# Altium schematic symbol library Cypress USB Controllers.SchLib: 169 symbols (part 4 of 15)
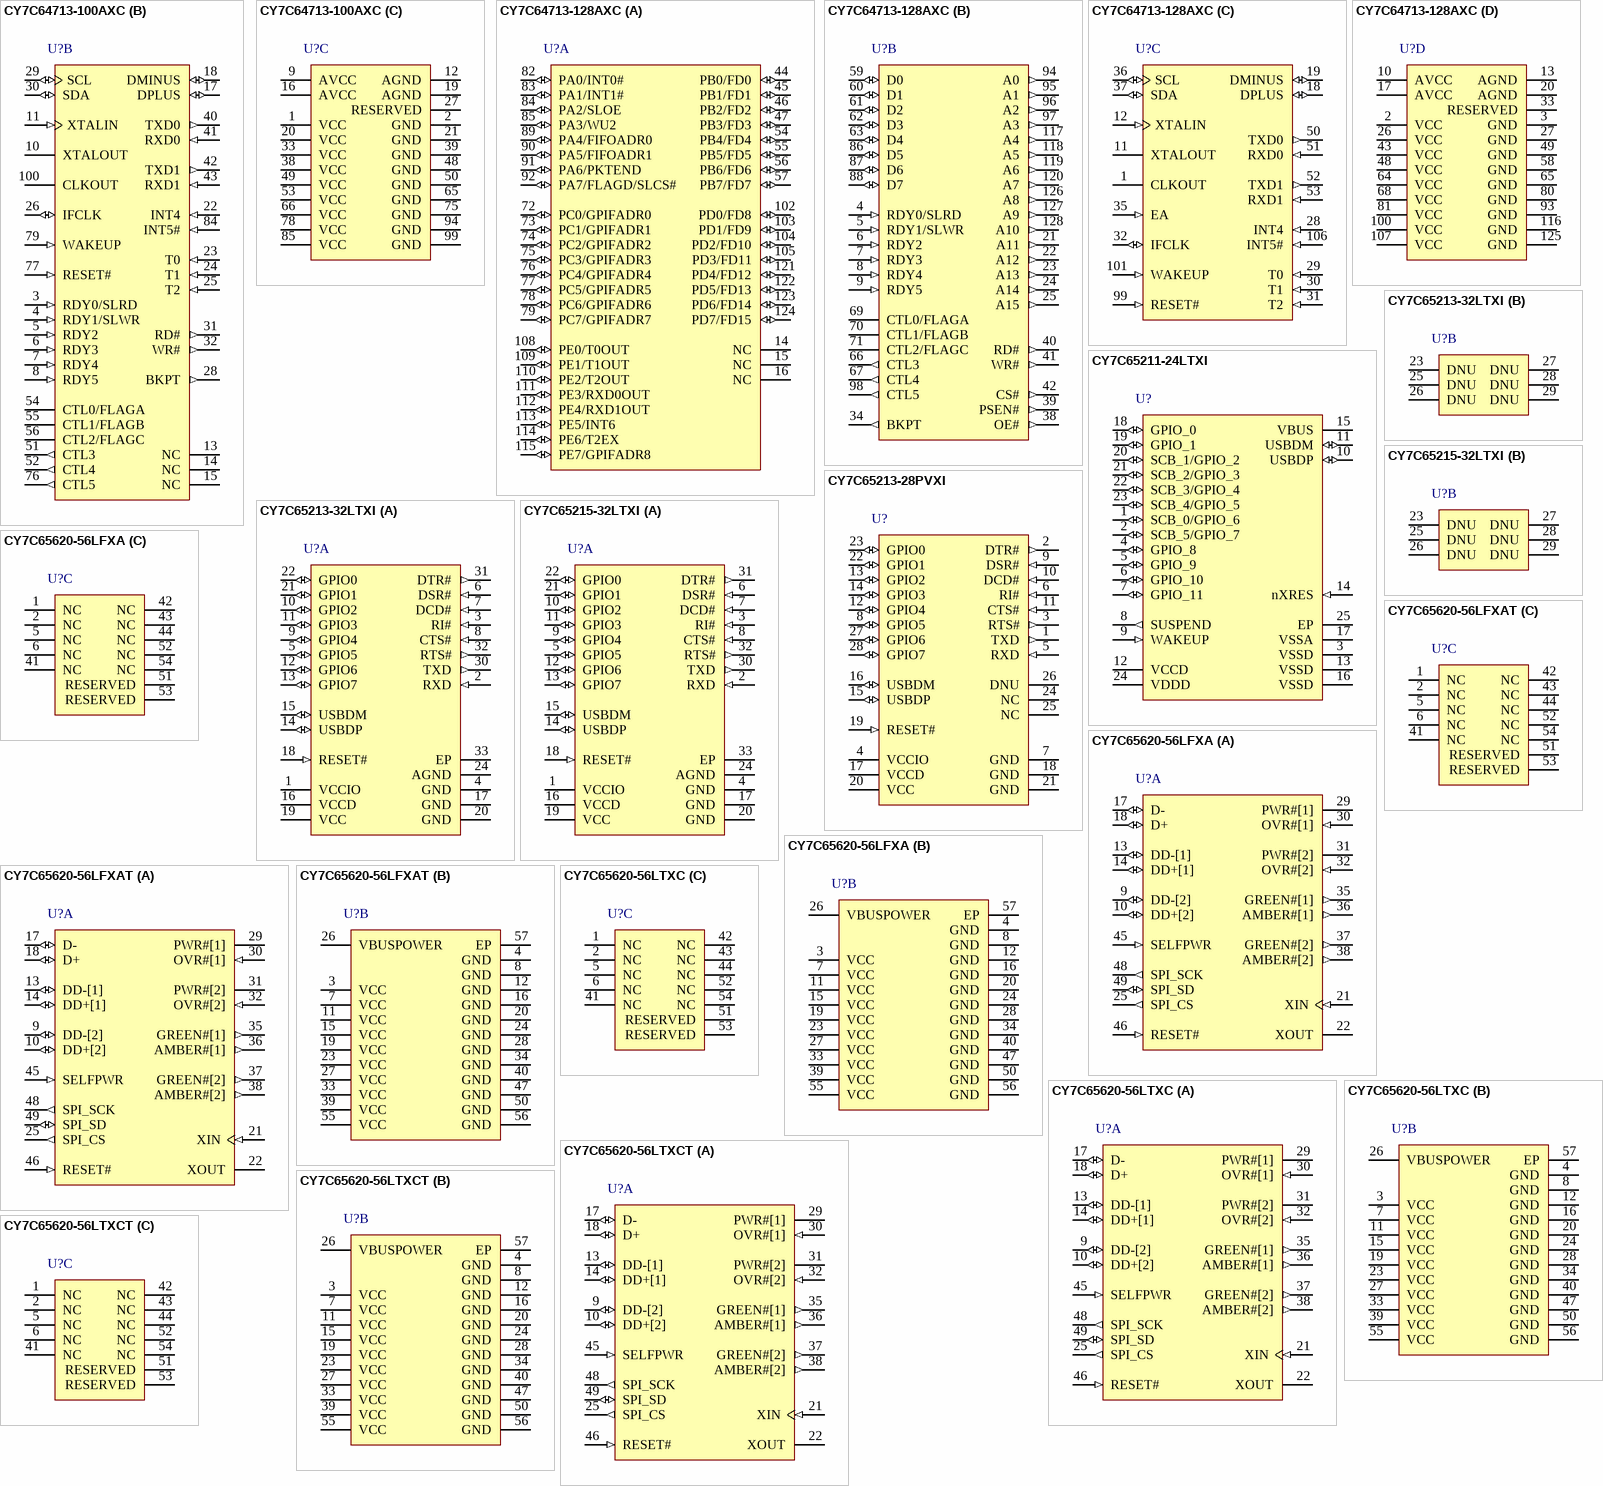
[diagram p25: symbols CY7C64713-100AXC to CY7C65620-56LTXCT]

## CY7C64713-128AXC
designator U?
EZ-USB FX1(TM) USB Microcontroller Full Speed USB Peripheral Controller, 16 KB, 40 I/Os, 3.15 to 3.45 V, 0 to 70 degC, 128-Pin TQFP (AX128), Tray; Manufacturer: Cypress; PartNumber: CY7C64713-128AXC; Max. Operating Voltage (V): 3.45; Memory Architecture: RAM; Memory Size (KB): 16; Min. Operating Voltage (V): 3.15; No. of I/Os: 40; Populated: Yes; DatasheetVersion: Rev. *L; PackageVersion: Rev. *F; PackageReference: AX128; PackageDescription: 128-Pin TQFP, Body 14 x 20 mm, Pitch 0.5 mm; Supplier 1: Digi-Key; Supplier Part Number 1: 428-1678-ND; CPU Core: Enhanced 8051; Max. Operating Temp. (degreesC): 70; Min. Operating Temp. (degreesC): 0; Packing: Tray; RoHS: Pb-Free; Mounting Technology: Surface Mount; Code_JEDEC: MS-026; ComponentLink1Description: Manufacturer URL; ComponentLink1URL: http://www.cypress.com/; ComponentLink2Description: Datasheet; ComponentLink2URL: http://www.cypress.com/?docID=48215; ComponentLink3Description: Package Specification; ComponentLink3URL: http://www.cypress.com/?docID=48215
footprint CYP-AX128_N (TQFP, 128-Leads, Body 20.1x14.1mm, Pitch 0.5mm, IPC Medium Density)
footprint CYP-AX128_L (TQFP, 128-Leads, Body 20.1x14.1mm, Pitch 0.5mm, IPC High Density)
footprint CYP-AX128_M (TQFP, 128-Leads, Body 20.1x14.1mm, Pitch 0.5mm, IPC Low Density)
part A pins: 14 NC "No Connect. This pin must be left open.", 15 NC "No Connect. This pin must be left open.", 16 NC "No Connect. This pin must be left open.", 44 PB0/FD0 (io), 45 PB1/FD1 (io), 46 PB2/FD2 (io), 47 PB3/FD3 (io), 54 PB4/FD4 (io), 55 PB5/FD5 (io), 56 PB6/FD6 (io), 57 PB7/FD7 (io), 72 PC0/GPIFADR0 (io), 73 PC1/GPIFADR1 (io), 74 PC2/GPIFADR2 (io), 75 PC3/GPIFADR3 (io), 76 PC4/GPIFADR4 (io), 77 PC5/GPIFADR5 (io), 78 PC6/GPIFADR6 (io), 79 PC7/GPIFADR7 (io), 82 PA0/INT0# (io), 83 PA1/INT1# (io), 84 PA2/SLOE (io), 85 PA3/WU2 (io), 89 PA4/FIFOADR0 (io), 90 PA5/FIFOADR1 (io), 91 PA6/PKTEND (io), 92 PA7/FLAGD/SLCS# (io), 102 PD0/FD8 (io), 103 PD1/FD9 (io), 104 PD2/FD10 (io), 105 PD3/FD11 (io), 108 PE0/T0OUT (io), 109 PE1/T1OUT (io), 110 PE2/T2OUT (io), 111 PE3/RXD0OUT (io), 112 PE4/RXD1OUT (io), 113 PE5/INT6 (io), 114 PE6/T2EX (io), 115 PE7/GPIFADR8 (io), 121 PD4/FD12 (io), 122 PD5/FD13 (io), 123 PD6/FD14 (io), 124 PD7/FD15 (io)
part B pins: 4 RDY0/SLRD (in), 5 RDY1/SLWR (in), 6 RDY2 (in) "RDY2 is a GPIF input signal.", 7 RDY3 (in) "RDY3 is a GPIF input signal.", 8 RDY4 (in) "RDY4 is a GPIF input signal.", 9 RDY5 (in) "RDY5 is a GPIF input signal.", 21 A11 (out) "8051 Address Bus. This bus is driven at all times. When the 8051 is addressing the internal RAM it reflects the internal address.", 22 A12 (out) "8051 Address Bus. This bus is driven at all times. When the 8051 is addressing the internal RAM it reflects the internal address.", 23 A13 (out) "8051 Address Bus. This bus is driven at all times. When the 8051 is addressing the internal RAM it reflects the internal address.", 24 A14 (out) "8051 Address Bus. This bus is driven at all times. When the 8051 is addressing the internal RAM it reflects the internal address.", 25 A15 (out) "8051 Address Bus. This bus is driven at all times. When the 8051 is addressing the internal RAM it reflects the internal address.", 34 BKPT (out) "Breakpoint. This pin goes active (HIGH) when the 8051 address bus matches the BPADDRH/L registers and breakpoints are enabled in the BREAKPT register (BPEN = 1). If the BPPULSE bit in the BREAKPT register is HIGH, this (See Datasheet)", 38 OE# (out) "OE# is the active LOW output enable for external memory.", 39 PSEN# (out) "Program Store Enable. This active LOW signal indicates an 8051 code fetch from external memory. It is active for program memory fetches from 0x4000-0xFFFF when the EA pin is LOW, or from 0x0000-0xFFFF when the EA pin is HIGH.", 40 RD# (out) "RD# is the active-LOW read strobe output for external memory.", 41 WR# (out) "WR# is the active-LOW write strobe output for external memory.", 42 CS# (out) "CS# is the active-LOW chip select for external memory.", 59 D0 (io) "8051 Data Bus. This bidirectional bus is high impedance when inactive, input for bus reads, and output for bus writes. The data bus is used for external 8051 program and data memory. The data bus is active only for external (See Datasheet)", 60 D1 (io) "8051 Data Bus. This bidirectional bus is high impedance when inactive, input for bus reads, and output for bus writes. The data bus is used for external 8051 program and data memory. The data bus is active only for external (See Datasheet)", 61 D2 (io) "8051 Data Bus. This bidirectional bus is high impedance when inactive, input for bus reads, and output for bus writes. The data bus is used for external 8051 program and data memory. The data bus is active only for external (See Datasheet)", 62 D3 (io) "8051 Data Bus. This bidirectional bus is high impedance when inactive, input for bus reads, and output for bus writes. The data bus is used for external 8051 program and data memory. The data bus is active only for external (See Datasheet)", 63 D4 (io) "8051 Data Bus. This bidirectional bus is high impedance when inactive, input for bus reads, and output for bus writes. The data bus is used for external 8051 program and data memory. The data bus is active only for external (See Datasheet)", 66 CTL3 (out) "CTL3 is a GPIF control output.", 67 CTL4 (out) "CTL4 is a GPIF control output.", 69 CTL0/FLAGA (hiz), 70 CTL1/FLAGB (hiz), 71 CTL2/FLAGC (hiz), 86 D5 (io) "8051 Data Bus. This bidirectional bus is high impedance when inactive, input for bus reads, and output for bus writes. The data bus is used for external 8051 program and data memory. The data bus is active only for external (See Datasheet)", 87 D6 (io) "8051 Data Bus. This bidirectional bus is high impedance when inactive, input for bus reads, and output for bus writes. The data bus is used for external 8051 program and data memory. The data bus is active only for external (See Datasheet)", 88 D7 (io) "8051 Data Bus. This bidirectional bus is high impedance when inactive, input for bus reads, and output for bus writes. The data bus is used for external 8051 program and data memory. The data bus is active only for external (See Datasheet)", 94 A0 (out) "8051 Address Bus. This bus is driven at all times. When the 8051 is addressing the internal RAM it reflects the internal address.", 95 A1 (out) "8051 Address Bus. This bus is driven at all times. When the 8051 is addressing the internal RAM it reflects the internal address.", 96 A2 (out) "8051 Address Bus. This bus is driven at all times. When the 8051 is addressing the internal RAM it reflects the internal address.", 97 A3 (out) "8051 Address Bus. This bus is driven at all times. When the 8051 is addressing the internal RAM it reflects the internal address.", 98 CTL5 (out) "CTL5 is a GPIF control output.", 117 A4 (out) "8051 Address Bus. This bus is driven at all times. When the 8051 is addressing the internal RAM it reflects the internal address.", 118 A5 (out) "8051 Address Bus. This bus is driven at all times. When the 8051 is addressing the internal RAM it reflects the internal address.", 119 A6 (out) "8051 Address Bus. This bus is driven at all times. When the 8051 is addressing the internal RAM it reflects the internal address.", 120 A7 (out) "8051 Address Bus. This bus is driven at all times. When the 8051 is addressing the internal RAM it reflects the internal address.", 126 A8 (out) "8051 Address Bus. This bus is driven at all times. When the 8051 is addressing the internal RAM it reflects the internal address.", 127 A9 (out) "8051 Address Bus. This bus is driven at all times. When the 8051 is addressing the internal RAM it reflects the internal address.", 128 A10 (out) "8051 Address Bus. This bus is driven at all times. When the 8051 is addressing the internal RAM it reflects the internal address."
part C pins: 1 CLKOUT (hiz) "CLKOUT. 12, 24 or 48 MHz clock, phase locked to the 24 MHz input clock. The 8051 defaults to 12 MHz operation. The 8051 may three-state this output by setting CPUCS.1 = 1.", 11 XTALOUT "Crystal Output. Connect this signal to a 24 MHz parallel-resonant, fundamental mode crystal and load capacitor to GND. If an external clock is used to drive XTALIN, leave this pin open.", 12 XTALIN (in) "Crystal Input. Connect this signal to a 24 MHz parallel-resonant, fundamental mode crystal and load capacitor to GND. It is also correct to drive the XTALIN with an external 24 MHz square wave derived from another clock (See Datasheet)", 18 DPLUS (io) "USB D+ Signal. Connect to the USB D+ signal.", 19 DMINUS (io) "USB D- Signal. Connect to the USB D- signal.", 28 INT4 (in) "INT4 is the 8051 INT4 interrupt request input signal. The INT4 pin is edge-sensitive, active HIGH.", 29 T0 (in) "T0 is the active-HIGH T0 signal for 8051 Timer0, which provides the input to Timer0 when C/T0 is 1. When C/T0 is 0, Timer0 does not use this bit.", 30 T1 (in) "T1 is the active-HIGH T1 signal for 8051 Timer1, which provides the input to Timer1 when C/T1 is 1. When C/T1 is 0, Timer1 does not use this bit.", 31 T2 (in) "T2 is the active-HIGH T2 input signal to 8051 Timer2, which provides the input to Timer2 when C/T2 = 1. When C/T2 = 0, Timer2 does not use this pin.", 32 IFCLK (io) "Interface Clock, used for synchronously clocking data into or out of the slave FIFOs. IFCLK also serves as a timing reference for all slave FIFO control signals and GPIF. When internal clocking is used (IFCONFIG.7 = 1) the (See Datasheet)", 35 EA (in) "External Access. This pin determines where the 8051 fetches code between addresses 0x0000 and 0x3FFF. If EA = 0 the 8051 fetches this code from its internal RAM. IF EA = 1 the 8051 fetches this code from external memory.", 36 SCL (io) "Clock for the I2C interface. Connect to VCC with a 2.2K resistor, even if no I2C peripheral is attached.", 37 SDA (io) "Data for I2C interface. Connect to VCC with a 2.2K resistor, even if no I2C peripheral is attached", 50 TXD0 (out), 51 RXD0 (in), 52 TXD1 (out) "TXD1 is an active-HIGH output pin from 8051 UART1, which provides the output clock in sync mode, and the output data in async mode.", 53 RXD1 (in) "RXD1 is an active-HIGH input signal for 8051 UART1, which provides data to the UART in all modes.", 99 RESET# (in) "Active LOW Reset. Resets the entire chip. See the section Reset and Wakeup on page 8 for more details.", 101 WAKEUP (in) "USB Wakeup. If the 8051 is in suspend, asserting this pin starts up the oscillator and interrupts the 8051 to allow it to exit the suspend mode. Holding WAKEUP asserted inhibits the EZ-USB FX1 chip from suspending. This pin (See Datasheet)", 106 INT5# (in) "INT5# is the 8051 INT5 interrupt request input signal. The INT5 pin is edge-sensitive, active LOW."
part D pins: 2 VCC (power) "VCC. Connect to 3.3 V power source.", 3 GND (power) "Ground.", 10 AVCC (power) "Analog VCC. Connect this pin to 3.3 V power source. This signal provides power to the analog section of the chip.", 13 AGND (power) "Analog Ground. Connect to ground with as short a path as possible.", 17 AVCC (power) "Analog VCC. Connect this pin to 3.3 V power source. This signal provides power to the analog section of the chip.", 20 AGND (power) "Analog Ground. Connect to ground with as short a path as possible.", 26 VCC (power) "VCC. Connect to 3.3 V power source.", 27 GND (power) "Ground.", 33 RESERVED (power) "Reserved. Connect to ground.", 43 VCC (power) "VCC. Connect to 3.3 V power source.", 48 VCC (power) "VCC. Connect to 3.3 V power source.", 49 GND (power) "Ground.", 58 GND (power) "Ground.", 64 VCC (power) "VCC. Connect to 3.3 V power source.", 65 GND (power) "Ground.", 68 VCC (power) "VCC. Connect to 3.3 V power source.", 80 GND (power) "Ground.", 81 VCC (power) "VCC. Connect to 3.3 V power source.", 93 GND (power) "Ground.", 100 VCC (power) "VCC. Connect to 3.3 V power source.", 107 VCC (power) "VCC. Connect to 3.3 V power source.", 116 GND (power) "Ground.", 125 GND (power) "Ground."

## CY7C65211-24LTXI
designator U?
USB-Serial Single-Channel (UART/I2C/SPI) Bridge with CapSense(R) and BCD, 0.5 KB, 12 I/Os, 1.71 to 5.5 V, -40 to 85 degC, 24-Pin QFN (LTX24), Tray; Manufacturer: Cypress; PartNumber: CY7C65211-24LTXI; CPU Core: M8; Max. Operating Voltage (V): 5.5; Memory Architecture: Flash; Memory Size (KB): 0.5; Min. Operating Voltage (V): 1.71; No. of I/Os: 12; Populated: Yes; DatasheetVersion: Rev. *E; PackageVersion: Rev. *E; PackageReference: LTX24; PackageDescription: 24-Pin Quad Flat No-Lead Package, Body 4 x 4 mm, Pitch 0.5 mm; Supplier 1: Digi-Key; Supplier Part Number 1: CY7C65211-24LTXI-ND; Max. Operating Temp. (degreesC): 85; Min. Operating Temp. (degreesC): -40; Packing: Tray; RoHS: Pb-Free; Mounting Technology: Surface Mount; Code_JEDEC: MO-248; ComponentLink1Description: Manufacturer URL; ComponentLink1URL: http://www.cypress.com/; ComponentLink2Description: Datasheet; ComponentLink2URL: http://www.cypress.com/?docID=45551; ComponentLink3Description: Package Specification; ComponentLink3URL: http://www.cypress.com/?docID=45551
footprint CYP-LTX24_N (QFN, 24-Leads, Body 4.1x4.1mm, Pitch 0.5mm, Thermal Pad 2.65x2.65mm, IPC Medium Density)
footprint CYP-LTX24_L (QFN, 24-Leads, Body 4.1x4.1mm, Pitch 0.5mm, Thermal Pad 2.65x2.65mm, IPC High Density)
footprint CYP-LTX24_M (QFN, 24-Leads, Body 4.1x4.1mm, Pitch 0.5mm, Thermal Pad 2.65x2.65mm, IPC Low Density)
pins: 1 SCB_0/GPIO_6 (io) "SCB/GPIO.", 2 SCB_5/GPIO_7 (io) "SCB/GPIO.", 3 VSSD (power) "Digital Ground", 4 GPIO_8 (io) "GPIO.", 5 GPIO_9 (io) "GPIO.", 6 GPIO_10 (io) "GPIO.", 7 GPIO_11 (io) "GPIO.", 8 SUSPEND (out) "Indicates device in suspend mode. Can be configured as active low/high using the configuration utility", 9 WAKEUP (in) "Wakeup device from suspend mode. Can be configured as active low/high using the configuration utility", 10 USBDP (io) "USB Data Signal Plus, integrates termination resistor and a 1.5-kohm pull-up resistor", 11 USBDM (io) "USB Data Signal Minus, integrates termination resistor", 12 VCCD (power) "This pin should be decoupled to ground using a 1-uF capacitor or by connecting a 1.8-V supply", 13 VSSD (power) "Digital Ground", 14 nXRES (in) "Chip reset, active low. Can be left unconnected or have a pull-up resistor connected if not used", 15 VBUS (power) "VBUS Supply, 3.15 V to 5.25 V", 16 VSSD (power) "Digital Ground", 17 VSSA (power) "Analog Ground", 18 GPIO_0 (io) "GPIO.", 19 GPIO_1 (io) "GPIO.", 20 SCB_1/GPIO_2 (io) "SCB/GPIO.", 21 SCB_2/GPIO_3 (io) "SCB/GPIO.", 22 SCB_3/GPIO_4 (io) "SCB/GPIO.", 23 SCB_4/GPIO_5 (io) "SCB/GPIO.", 24 VDDD (power) "Supply to the device core and Interface, 1.71 to 5.5 V", 25 EP

## CY7C65213-28PVXI
designator U?
USB-UART LP Bridge Controller, 0.5 KB, 8 I/Os, 1.71 to 5.5 V, -40 to 85 degC, 28-Pin SSOP (PVX28), Tray; Manufacturer: Cypress; PartNumber: CY7C65213-28PVXI; CPU Core: M8; Max. Operating Voltage (V): 5.5; Memory Architecture: Flash; Memory Size (KB): 0.5; Min. Operating Voltage (V): 1.71; No. of I/Os: 8; Populated: Yes; DatasheetVersion: Rev. *G; PackageVersion: Rev. *C, 10/2001; PackageReference: PVX28; PackageDescription: 28-Pin Super Small Outline Package, Body 10.2 x 5.3 mm, Pitch 0.65 mm; Supplier 1: Digi-Key; Supplier Part Number 1: CY7C65213-28PVXI-ND; Max. Operating Temp. (degreesC): 85; Min. Operating Temp. (degreesC): -40; Packing: Tray; RoHS: Pb-Free; Mounting Technology: Surface Mount; ComponentLink1Description: Manufacturer URL; ComponentLink1URL: http://www.cypress.com/; ComponentLink2Description: Datasheet; ComponentLink2URL: http://www.cypress.com/?docID=47660; ComponentLink3Description: Package Specification; ComponentLink3URL: http://www.cypress.com/?docID=1371
footprint CYP-PVX28_N (SOP, 28-Leads, Body 10.2x5.3mm, Pitch 0.65mm, IPC Medium Density)
footprint CYP-PVX28_L (SOP, 28-Leads, Body 10.2x5.3mm, Pitch 0.65mm, IPC High Density)
footprint CYP-PVX28_M (SOP, 28-Leads, Body 10.2x5.3mm, Pitch 0.65mm, IPC Low Density)
pins: 1 TXD (out) "Transmit asynchronous data output", 2 DTR# (out) "Data terminal ready control output", 3 RTS# (out) "Request to send control output", 4 VCCIO (power) "Supply to the device core and Interface, 1.71 to 5.5 V", 5 RXD (in) "Receiving asynchronous data input", 6 RI# (in) "Ring indicator control input. Can be configured as wake-up; low signal on this pin is used to wake up the USB Host controller out of the suspend State", 7 GND (power) "Digital Ground", 8 GPIO5 (io) "Configurable GPIO", 9 DSR# (in) "Data set ready control input", 10 DCD# (in) "Data carrier detect control input", 11 CTS# (in) "Clear to send control input", 12 GPIO4 (io) "Configurable GPIO", 13 GPIO2 (io) "Configurable GPIO", 14 GPIO3 (io) "Configurable GPIO", 15 USBDP (io) "USB Data Signal Plus, integrating termination resistor and a 1.5-kohm pull-up resistor", 16 USBDM (io) "USB Data Signal Minus, integrating termination resistor", 17 VCCD (power) "This pin is an output of an internal regulator and cannot drive external devices. Decouple this pin to ground using 1uF capacitor when the VCCIO voltage is greater then 2 V. Connect this pin to VCCIO supply when the VCCIO (See Datasheet)", 18 GND (power) "Digital Ground", 19 RESET# (in) "Chip reset, active low. Can be left unconnected or have a pull-up resistor connected to VCCIO supply.", 20 VCC (power) "VBUS Supply voltage (USB) 3.15 to 5.25 V", 21 GND (power) "Digital Ground", 22 GPIO1 (io) "Configurable GPIO", 23 GPIO0 (io) "Configurable GPIO", 24 NC "No Connect", 25 NC "No Connect", 26 DNU "Do Not Use", 27 GPIO6 (io) "Configurable GPIO", 28 GPIO7 (io) "Configurable GPIO"

## CY7C65213-32LTXI
designator U?
USB-UART LP Bridge Controller, 0.5 KB, 8 I/Os, 1.71 to 5.5 V, -40 to 85 degC, 32-Pin QFN (LTX32), Tray; Manufacturer: Cypress; PartNumber: CY7C65213-32LTXI; CPU Core: M8; Max. Operating Voltage (V): 5.5; Memory Architecture: Flash; Memory Size (KB): 0.5; Min. Operating Voltage (V): 1.71; No. of I/Os: 8; Populated: Yes; DatasheetVersion: Rev. *G; PackageVersion: Rev. *D, 09/2012; PackageReference: LTX32; PackageDescription: 32-Pin Sawn QFN, Body 5 x 5 mm, Pitch 0.5 mm; Supplier 1: Digi-Key; Supplier Part Number 1: CY7C65213-32LTXI-ND; Max. Operating Temp. (degreesC): 85; Min. Operating Temp. (degreesC): -40; Packing: Tray; RoHS: Pb-Free; Mounting Technology: Surface Mount; Code_JEDEC: MO-220; ComponentLink1Description: Manufacturer URL; ComponentLink1URL: http://www.cypress.com/; ComponentLink2Description: Datasheet; ComponentLink2URL: http://www.cypress.com/?docID=47660; ComponentLink3Description: Package Specification; ComponentLink3URL: http://www.cypress.com/?docID=39513
footprint CYP-LTX32_N (QFN, 32-Leads, Body 5.1x5.1mm, Pitch 0.5mm, Thermal Pad 3.5x3.5mm, IPC Medium Density)
footprint CYP-LTX32_L (QFN, 32-Leads, Body 5.1x5.1mm, Pitch 0.5mm, Thermal Pad 3.5x3.5mm, IPC Medium Density)
footprint CYP-LTX32_M (QFN, 32-Leads, Body 5.1x5.1mm, Pitch 0.5mm, Thermal Pad 3.5x3.5mm, IPC Low Density)
part A pins: 1  VCCIO (power) "Supply to the device core and Interface, 1.71 to 5.5 V", 2 RXD (in) "Receiving asynchronous data input", 3 RI# (in) "Ring indicator control input. Can be configured as wake-up; low signal on this pin is used to wake up the USB Host controller out of the suspend state", 4 GND (power) "Digital Ground", 5 GPIO5 (io) "Configurable GPIO. See Table 12.", 6 DSR# (in) "Data set ready control input", 7 DCD# (in) "Data carrier detect control input", 8 CTS# (in) "Clear to send control input", 9 GPIO4 (io) "Configurable GPIO. See Table 12.", 10 GPIO2 (io) "Configurable GPIO. See Table 12.", 11 GPIO3 (io) "Configurable GPIO. See Table 12.", 12 GPIO6 (io) "Configurable GPIO. See Table 12.", 13 GPIO7 (io) "Configurable GPIO. See Table 12.", 14 USBDP (io) "USB Data Signal Plus, integrating termination resistor and a 1.5-kohm pull-up resistor", 15 USBDM (io) "USB Data Signal Minus, integrating termination resistor", 16 VCCD (power) "This pin is an output of an internal regulator and cannot drive external devices. Decouple this pin to ground using 1 uF capacitor when the VCCIO voltage is greater then 2 V. Connect this pin to VCCIO supply when the VCCIO (See Datasheet)", 17 GND (power) "Digital Ground", 18 RESET# (in) "Chip reset, active low. Can be left unconnected or have a pull-up resistor connected to VCCIO supply.", 19 VCC (power) "Supply voltage (USB) 3.15 to 5.25 V", 20 GND (power) "Digital Ground", 21 GPIO1 (io) "Configurable GPIO. See Table 12.", 22 GPIO0 (io) "Configurable GPIO. See Table 12.", 24 AGND (power) "Analog Ground", 30 TXD (out) "Transmit asynchronous data output", 31 DTR# (out) "Data terminal ready control output", 32 RTS# (out) "Request to send control output", 33 EP
part B pins: 23 DNU "Do Not Use", 25 DNU "Do Not Use", 26 DNU "Do Not Use", 27 DNU "Do Not Use", 28 DNU "Do Not Use", 29 DNU "Do Not Use"

## CY7C65215-32LTXI
designator U?
USB-Serial Dual Channel (UART/I2C/SPI) Bridge with CapSense(R) and BCD, 0.5 KB, 19 I/Os, 1.71 to 5.5 V, -40 to 85 degC, 32-Pin QFN (LTX32), Tray; Manufacturer: Cypress; PartNumber: CY7C65215-32LTXI; CPU Core: M8; Max. Operating Voltage (V): 5.5; Memory Architecture: Flash; Memory Size (KB): 0.5; Min. Operating Voltage (V): 1.71; No. of I/Os: 19; Populated: Yes; DatasheetVersion: Rev. *F; PackageVersion: Rev. *D, 09/2012; PackageReference: LTX32; PackageDescription: 32-Pin Sawn QFN, Body 5 x 5 mm, Pitch 0.5 mm; Supplier 1: Digi-Key; Supplier Part Number 1: CY7C65215-32LTXI-ND; Max. Operating Temp. (degreesC): 85; Min. Operating Temp. (degreesC): -40; Packing: Tray; RoHS: Pb-Free; Mounting Technology: Surface Mount; Code_JEDEC: MO-220; ComponentLink1Description: Manufacturer URL; ComponentLink1URL: http://www.cypress.com/; ComponentLink2Description: Datasheet; ComponentLink2URL: http://www.cypress.com/?docID=45712; ComponentLink3Description: Package Specification; ComponentLink3URL: http://www.cypress.com/?docID=39513
footprint CYP-LTX32_N (QFN, 32-Leads, Body 5.1x5.1mm, Pitch 0.5mm, Thermal Pad 3.5x3.5mm, IPC Medium Density)
footprint CYP-LTX32_L (QFN, 32-Leads, Body 5.1x5.1mm, Pitch 0.5mm, Thermal Pad 3.5x3.5mm, IPC Medium Density)
footprint CYP-LTX32_M (QFN, 32-Leads, Body 5.1x5.1mm, Pitch 0.5mm, Thermal Pad 3.5x3.5mm, IPC Low Density)
part A pins: 1  VCCIO (power) "Supply to the device core and Interface, 1.71 to 5.5 V", 2 RXD (in) "Receiving asynchronous data input", 3 RI# (in) "Ring indicator control input. Can be configured as wake-up; low signal on this pin is used to wake up the USB Host controller out of the suspend state", 4 GND (power) "Digital Ground", 5 GPIO5 (io) "Configurable GPIO. See Table 12.", 6 DSR# (in) "Data set ready control input", 7 DCD# (in) "Data carrier detect control input", 8 CTS# (in) "Clear to send control input", 9 GPIO4 (io) "Configurable GPIO. See Table 12.", 10 GPIO2 (io) "Configurable GPIO. See Table 12.", 11 GPIO3 (io) "Configurable GPIO. See Table 12.", 12 GPIO6 (io) "Configurable GPIO. See Table 12.", 13 GPIO7 (io) "Configurable GPIO. See Table 12.", 14 USBDP (io) "USB Data Signal Plus, integrating termination resistor and a 1.5-kohm pull-up resistor", 15 USBDM (io) "USB Data Signal Minus, integrating termination resistor", 16 VCCD (power) "This pin is an output of an internal regulator and cannot drive external devices. Decouple this pin to ground using 1 uF capacitor when the VCCIO voltage is greater then 2 V. Connect this pin to VCCIO supply when the VCCIO (See Datasheet)", 17 GND (power) "Digital Ground", 18 RESET# (in) "Chip reset, active low. Can be left unconnected or have a pull-up resistor connected to VCCIO supply.", 19 VCC (power) "Supply voltage (USB) 3.15 to 5.25 V", 20 GND (power) "Digital Ground", 21 GPIO1 (io) "Configurable GPIO. See Table 12.", 22 GPIO0 (io) "Configurable GPIO. See Table 12.", 24 AGND (power) "Analog Ground", 30 TXD (out) "Transmit asynchronous data output", 31 DTR# (out) "Data terminal ready control output", 32 RTS# (out) "Request to send control output", 33 EP
part B pins: 23 DNU "Do Not Use", 25 DNU "Do Not Use", 26 DNU "Do Not Use", 27 DNU "Do Not Use", 28 DNU "Do Not Use", 29 DNU "Do Not Use"

## CY7C65620-56LFXA
designator U?
EZ-USB HX2LP(TM) Low Power USB 2.0 Hub Controller Family, 2 Hub Ports, 3.15 to 3.45 V, -40 to 85 degC, 56-Pin QFN (LFX56), Tube; Manufacturer: Cypress; PartNumber: CY7C65620-56LFXA; Max. Operating Voltage (V): 3.45; Min. Operating Voltage (V): 3.15; No. of Hub Ports: 2; Single/Multi TT: Single; Populated: Yes; DatasheetVersion: Rev. *I; PackageVersion: Rev. *I; PackageReference: LFX56; PackageDescription: 56-Pin QFN (Subcon Punch Type), Body 8 x 8 mm, Pitch 0.5 mm; Supplier 1: Digi-Key; Supplier Part Number 1: CY7C65620-56LFXA-ND; Max. Operating Temp. (degreesC): 85; Min. Operating Temp. (degreesC): -40; Packing: Tube; RoHS: Pb-Free; Mounting Technology: Surface Mount; Code_JEDEC: MO-220; ComponentLink1Description: Manufacturer URL; ComponentLink1URL: http://www.cypress.com/; ComponentLink2Description: Datasheet; ComponentLink2URL: http://www.cypress.com/?docID=45022; ComponentLink3Description: Package Specification; ComponentLink3URL: http://www.cypress.com/?docID=45022
footprint CYP-LFX56-6100X6100TP_N (QFN, 56-Leads, Body 8.1x8.1mm, Pitch 0.5mm, Thermal Pad 6.1X6.1mm, IPC Medium Density)
footprint CYP-LFX56-6100X6100TP_L (QFN, 56-Leads, Body 8.1x8.1mm, Pitch 0.5mm, Thermal Pad 6.1X6.1mm, IPC High Density)
footprint CYP-LFX56-6100X6100TP_M (QFN, 56-Leads, Body 8.1x8.1mm, Pitch 0.5mm, Thermal Pad 6.1X6.1mm, IPC Low Density)
part A pins: 9 DD-[2] (io) "Downstream D- Signal.", 10 DD+[2] (io) "Downstream D+ Signal.", 13 DD-[1] (io) "Downstream D- Signal.", 14 DD+[1] (io) "Downstream D+ Signal.", 17 D- (io) "Upstream D- Signal.", 18 D+ (io) "Upstream D+ Signal.", 21 XIN (in) "24 MHz crystal IN or external clock input.", 22 XOUT "24 MHz crystal OUT. (NC if external clock is used)", 25 SPI_CS (out) "SPI chip select. Connect to CS pin of the EEPROM.", 29 PWR#[1] (hiz) "Power switch driver output. Default is active LOW. Polarity is controlled through EEPROM.", 30 OVR#[1] (in) "Overcurrent condition detection input. Default is active LOW. Polarity is controlled through EEPROM.", 31 PWR#[2] (hiz) "Power switch driver output. Default is active LOW. Polarity is controlled through EEPROM.", 32 OVR#[2] (in) "Overcurrent condition detection input. Default is active LOW. Polarity is controlled through EEPROM.", 35 GREEN#[1] (out) "LED. Driver output for Green LED. Port indicator support. Default is active LOW. Polarity is controlled through EEPROM.", 36 AMBER#[1] (out) "LED. Driver output for Amber LED. Port indicator support. Default is active LOW. Polarity is controlled through EEPROM.", 37 GREEN#[2] (out) "LED. Driver output for green LED. Port indicator support. Default is active LOW. Polarity is controlled through EEPROM.", 38 AMBER#[2] (out) "LED. Driver output for amber LED. Port indicator support. Default is active LOW. Polarity is controlled through EEPROM.", 45 SELFPWR (in) "Self power. Indicator for bus or self powered. 0 is bus powered, 1 is self powered.", 46 RESET# (in) "Active LOW reset. This pin resets the entire chip. It is normally tied to VCC through a 100 K resistor, and to GND through a 0.1 uF capacitor. No other special power-up procedure is required.", 48 SPI_SCK (out) "SPI clock. Connect to EEPROM SCK pin.", 49 SPI_SD (io) "SPI dataline connect to GND with 15 kW resistor and to the Data I/O pin of the EEPROM."
part B pins: 3 VCC (power) "VCC. This signal provides power to the chip.", 4 GND (power) "GND. Connect to ground with as short a path as possible.", 7 VCC (power) "VCC. This signal provides power to the chip.", 8 GND (power) "GND. Connect to ground with as short a path as possible.", 11 VCC (power) "VCC. This signal provides power to the chip.", 12 GND (power) "GND. Connect to ground with as short a path as possible.", 15 VCC (power) "VCC. This signal provides power to the chip.", 16 GND (power) "GND. Connect to ground with as short a path as possible.", 19 VCC (power) "VCC. This signal provides power to the chip.", 20 GND (power) "GND. Connect to ground with as short a path as possible.", 23 VCC (power) "VCC. This signal provides power to the chip.", 24 GND (power) "GND. Connect to ground with as short a path as possible.", 26 VBUSPOWER (power) "VBUS. Connect to the VBUS pin of the upstream connector. This signal indicates to the hub that it is in a connected state, and may enable the D+ pull-up resistor to indicate a connection. (The hub does so after the external (See Datasheet)", 27 VCC (power) "VCC. This signal provides power to the chip.", 28 GND (power) "GND. Connect to ground with as short a path as possible.", 33 VCC (power) "VCC. This signal provides power to the chip.", 34 GND (power) "GND. Connect to ground with as short a path as possible.", 39 VCC (power) "VCC. This signal provides power to the chip.", 40 GND (power) "GND. Connect to ground with as short a path as possible.", 47 GND (power) "GND. Connect to ground with as short a path as possible.", 50 GND (power) "GND. Connect to ground with as short a path as possible.", 55 VCC (power) "VCC. This signal provides power to the chip.", 56 GND (power) "GND. Connect to ground with as short a path as possible.", 57 EP
part C pins: 1 NC, 2 NC, 5 NC, 6 NC, 41 NC, 42 NC, 43 NC, 44 NC, 51 RESERVED "Reserved. Pull to deasserted state with external resistor", 52 NC, 53 RESERVED "Reserved. Pull to deasserted state with external resistor", 54 NC

## CY7C65620-56LFXAT
designator U?
EZ-USB HX2LP(TM) Low Power USB 2.0 Hub Controller Family, 2 Hub Ports, 3.15 to 3.45 V, -40 to 85 degC, 56-Pin QFN (LFX56), Tape and Reel; Manufacturer: Cypress; PartNumber: CY7C65620-56LFXAT; Max. Operating Voltage (V): 3.45; Min. Operating Voltage (V): 3.15; No. of Hub Ports: 2; Single/Multi TT: Single; Populated: Yes; DatasheetVersion: Rev. *I; PackageVersion: Rev. *I; PackageReference: LFX56; PackageDescription: 56-Pin QFN (Subcon Punch Type), Body 8 x 8 mm, Pitch 0.5 mm; Max. Operating Temp. (degreesC): 85; Min. Operating Temp. (degreesC): -40; Packing: Tape and Reel; RoHS: Pb-Free; Mounting Technology: Surface Mount; Code_JEDEC: MO-220; ComponentLink1Description: Manufacturer URL; ComponentLink1URL: http://www.cypress.com/; ComponentLink2Description: Datasheet; ComponentLink2URL: http://www.cypress.com/?docID=45022; ComponentLink3Description: Package Specification; ComponentLink3URL: http://www.cypress.com/?docID=45022
footprint CYP-LFX56-6100X6100TP_N (QFN, 56-Leads, Body 8.1x8.1mm, Pitch 0.5mm, Thermal Pad 6.1X6.1mm, IPC Medium Density)
footprint CYP-LFX56-6100X6100TP_L (QFN, 56-Leads, Body 8.1x8.1mm, Pitch 0.5mm, Thermal Pad 6.1X6.1mm, IPC High Density)
footprint CYP-LFX56-6100X6100TP_M (QFN, 56-Leads, Body 8.1x8.1mm, Pitch 0.5mm, Thermal Pad 6.1X6.1mm, IPC Low Density)
part A pins: 9 DD-[2] (io) "Downstream D- Signal.", 10 DD+[2] (io) "Downstream D+ Signal.", 13 DD-[1] (io) "Downstream D- Signal.", 14 DD+[1] (io) "Downstream D+ Signal.", 17 D- (io) "Upstream D- Signal.", 18 D+ (io) "Upstream D+ Signal.", 21 XIN (in) "24 MHz crystal IN or external clock input.", 22 XOUT "24 MHz crystal OUT. (NC if external clock is used)", 25 SPI_CS (out) "SPI chip select. Connect to CS pin of the EEPROM.", 29 PWR#[1] (hiz) "Power switch driver output. Default is active LOW. Polarity is controlled through EEPROM.", 30 OVR#[1] (in) "Overcurrent condition detection input. Default is active LOW. Polarity is controlled through EEPROM.", 31 PWR#[2] (hiz) "Power switch driver output. Default is active LOW. Polarity is controlled through EEPROM.", 32 OVR#[2] (in) "Overcurrent condition detection input. Default is active LOW. Polarity is controlled through EEPROM.", 35 GREEN#[1] (out) "LED. Driver output for Green LED. Port indicator support. Default is active LOW. Polarity is controlled through EEPROM.", 36 AMBER#[1] (out) "LED. Driver output for Amber LED. Port indicator support. Default is active LOW. Polarity is controlled through EEPROM.", 37 GREEN#[2] (out) "LED. Driver output for green LED. Port indicator support. Default is active LOW. Polarity is controlled through EEPROM.", 38 AMBER#[2] (out) "LED. Driver output for amber LED. Port indicator support. Default is active LOW. Polarity is controlled through EEPROM.", 45 SELFPWR (in) "Self power. Indicator for bus or self powered. 0 is bus powered, 1 is self powered.", 46 RESET# (in) "Active LOW reset. This pin resets the entire chip. It is normally tied to VCC through a 100 K resistor, and to GND through a 0.1 uF capacitor. No other special power-up procedure is required.", 48 SPI_SCK (out) "SPI clock. Connect to EEPROM SCK pin.", 49 SPI_SD (io) "SPI dataline connect to GND with 15 kW resistor and to the Data I/O pin of the EEPROM."
part B pins: 3 VCC (power) "VCC. This signal provides power to the chip.", 4 GND (power) "GND. Connect to ground with as short a path as possible.", 7 VCC (power) "VCC. This signal provides power to the chip.", 8 GND (power) "GND. Connect to ground with as short a path as possible.", 11 VCC (power) "VCC. This signal provides power to the chip.", 12 GND (power) "GND. Connect to ground with as short a path as possible.", 15 VCC (power) "VCC. This signal provides power to the chip.", 16 GND (power) "GND. Connect to ground with as short a path as possible.", 19 VCC (power) "VCC. This signal provides power to the chip.", 20 GND (power) "GND. Connect to ground with as short a path as possible.", 23 VCC (power) "VCC. This signal provides power to the chip.", 24 GND (power) "GND. Connect to ground with as short a path as possible.", 26 VBUSPOWER (power) "VBUS. Connect to the VBUS pin of the upstream connector. This signal indicates to the hub that it is in a connected state, and may enable the D+ pull-up resistor to indicate a connection. (The hub does so after the external (See Datasheet)", 27 VCC (power) "VCC. This signal provides power to the chip.", 28 GND (power) "GND. Connect to ground with as short a path as possible.", 33 VCC (power) "VCC. This signal provides power to the chip.", 34 GND (power) "GND. Connect to ground with as short a path as possible.", 39 VCC (power) "VCC. This signal provides power to the chip.", 40 GND (power) "GND. Connect to ground with as short a path as possible.", 47 GND (power) "GND. Connect to ground with as short a path as possible.", 50 GND (power) "GND. Connect to ground with as short a path as possible.", 55 VCC (power) "VCC. This signal provides power to the chip.", 56 GND (power) "GND. Connect to ground with as short a path as possible.", 57 EP
part C pins: 1 NC, 2 NC, 5 NC, 6 NC, 41 NC, 42 NC, 43 NC, 44 NC, 51 RESERVED "Reserved. Pull to deasserted state with external resistor", 52 NC, 53 RESERVED "Reserved. Pull to deasserted state with external resistor", 54 NC

## CY7C65620-56LTXC
designator U?
EZ-USB HX2LP(TM) Low Power USB 2.0 Hub Controller Family, 2 Hub Ports, 3.15 to 3.45 V, 0 to 70 degC, 56-Pin QFN (LTX56), Tube; Manufacturer: Cypress; PartNumber: CY7C65620-56LTXC; Max. Operating Voltage (V): 3.45; Min. Operating Voltage (V): 3.15; No. of Hub Ports: 2; Single/Multi TT: Single; Populated: Yes; DatasheetVersion: Rev. AA; PackageVersion: Rev. *F; PackageReference: LTX56; PackageDescription: 56-Pin Sawn QFN, Body 8 x 8 mm, Pitch 0.5 mm; Supplier 1: Digi-Key; Supplier Part Number 1: 428-2930-ND; Max. Operating Temp. (degreesC): 70; Min. Operating Temp. (degreesC): 0; Packing: Tube; RoHS: Pb-Free; Mounting Technology: Surface Mount; Code_JEDEC: MO-220; ComponentLink1Description: Manufacturer URL; ComponentLink1URL: http://www.cypress.com/; ComponentLink2Description: Datasheet; ComponentLink2URL: http://www.cypress.com/?docID=45022; ComponentLink3Description: Package Specification; ComponentLink3URL: http://www.cypress.com/?docID=45022
footprint CYP-LTX56-6100X6100TP_N (QFN, 56-Leads, Body 8.1x8.1mm, Pitch 0.5mm, Thermal Pad 6.1x6.1mm, IPC Medium Density)
footprint CYP-LTX56-6100X6100TP_L (QFN, 56-Leads, Body 8.1x8.1mm, Pitch 0.5mm, Thermal Pad 6.1x6.1mm, IPC High Density)
footprint CYP-LTX56-6100X6100TP_M (QFN, 56-Leads, Body 8.1x8.1mm, Pitch 0.5mm, Thermal Pad 6.1x6.1mm, IPC Low Density)
part A pins: 9 DD-[2] (io) "Downstream D- Signal.", 10 DD+[2] (io) "Downstream D+ Signal.", 13 DD-[1] (io) "Downstream D- Signal.", 14 DD+[1] (io) "Downstream D+ Signal.", 17 D- (io) "Upstream D- Signal.", 18 D+ (io) "Upstream D+ Signal.", 21 XIN (in) "24 MHz crystal IN or external clock input.", 22 XOUT "24 MHz crystal OUT. (NC if external clock is used)", 25 SPI_CS (out) "SPI chip select. Connect to CS pin of the EEPROM.", 29 PWR#[1] (hiz) "Power switch driver output. Default is active LOW. Polarity is controlled through EEPROM.", 30 OVR#[1] (in) "Overcurrent condition detection input. Default is active LOW. Polarity is controlled through EEPROM.", 31 PWR#[2] (hiz) "Power switch driver output. Default is active LOW. Polarity is controlled through EEPROM.", 32 OVR#[2] (in) "Overcurrent condition detection input. Default is active LOW. Polarity is controlled through EEPROM.", 35 GREEN#[1] (out) "LED. Driver output for Green LED. Port indicator support. Default is active LOW. Polarity is controlled through EEPROM.", 36 AMBER#[1] (out) "LED. Driver output for Amber LED. Port indicator support. Default is active LOW. Polarity is controlled through EEPROM.", 37 GREEN#[2] (out) "LED. Driver output for green LED. Port indicator support. Default is active LOW. Polarity is controlled through EEPROM.", 38 AMBER#[2] (out) "LED. Driver output for amber LED. Port indicator support. Default is active LOW. Polarity is controlled through EEPROM.", 45 SELFPWR (in) "Self power. Indicator for bus or self powered. 0 is bus powered, 1 is self powered.", 46 RESET# (in) "Active LOW reset. This pin resets the entire chip. It is normally tied to VCC through a 100 K resistor, and to GND through a 0.1 uF capacitor. No other special power-up procedure is required.", 48 SPI_SCK (out) "SPI clock. Connect to EEPROM SCK pin.", 49 SPI_SD (io) "SPI dataline connect to GND with 15 kW resistor and to the Data I/O pin of the EEPROM."
part B pins: 3 VCC (power) "VCC. This signal provides power to the chip.", 4 GND (power) "GND. Connect to ground with as short a path as possible.", 7 VCC (power) "VCC. This signal provides power to the chip.", 8 GND (power) "GND. Connect to ground with as short a path as possible.", 11 VCC (power) "VCC. This signal provides power to the chip.", 12 GND (power) "GND. Connect to ground with as short a path as possible.", 15 VCC (power) "VCC. This signal provides power to the chip.", 16 GND (power) "GND. Connect to ground with as short a path as possible.", 19 VCC (power) "VCC. This signal provides power to the chip.", 20 GND (power) "GND. Connect to ground with as short a path as possible.", 23 VCC (power) "VCC. This signal provides power to the chip.", 24 GND (power) "GND. Connect to ground with as short a path as possible.", 26 VBUSPOWER (power) "VBUS. Connect to the VBUS pin of the upstream connector. This signal indicates to the hub that it is in a connected state, and may enable the D+ pull-up resistor to indicate a connection. (The hub does so after the external (See Datasheet)", 27 VCC (power) "VCC. This signal provides power to the chip.", 28 GND (power) "GND. Connect to ground with as short a path as possible.", 33 VCC (power) "VCC. This signal provides power to the chip.", 34 GND (power) "GND. Connect to ground with as short a path as possible.", 39 VCC (power) "VCC. This signal provides power to the chip.", 40 GND (power) "GND. Connect to ground with as short a path as possible.", 47 GND (power) "GND. Connect to ground with as short a path as possible.", 50 GND (power) "GND. Connect to ground with as short a path as possible.", 55 VCC (power) "VCC. This signal provides power to the chip.", 56 GND (power) "GND. Connect to ground with as short a path as possible.", 57 EP
part C pins: 1 NC, 2 NC, 5 NC, 6 NC, 41 NC, 42 NC, 43 NC, 44 NC, 51 RESERVED "Reserved. Pull to deasserted state with external resistor", 52 NC, 53 RESERVED "Reserved. Pull to deasserted state with external resistor", 54 NC

## CY7C65620-56LTXCT
designator U?
EZ-USB HX2LP(TM) Low Power USB 2.0 Hub Controller Family, 2 Hub Ports, 3.15 to 3.45 V, 0 to 70 degC, 56-Pin QFN (LTX56), Tape and Reel; Manufacturer: Cypress; PartNumber: CY7C65620-56LTXCT; Max. Operating Voltage (V): 3.45; Min. Operating Voltage (V): 3.15; No. of Hub Ports: 2; Single/Multi TT: Single; Populated: Yes; DatasheetVersion: Rev. *I; PackageVersion: Rev. *F; PackageReference: LTX56; PackageDescription: 56-Pin Sawn QFN, Body 8 x 8 mm, Pitch 0.5 mm; Supplier 1: Digi-Key; Supplier Part Number 1: CY7C65620-56LTXCT-ND; Max. Operating Temp. (degreesC): 70; Min. Operating Temp. (degreesC): 0; Packing: Tape and Reel; RoHS: Pb-Free; Mounting Technology: Surface Mount; Code_JEDEC: MO-220; ComponentLink1Description: Manufacturer URL; ComponentLink1URL: http://www.cypress.com/; ComponentLink2Description: Datasheet; ComponentLink2URL: http://www.cypress.com/?docID=45022; ComponentLink3Description: Package Specification; ComponentLink3URL: http://www.cypress.com/?docID=45022
footprint CYP-LTX56-6100X6100TP_N (QFN, 56-Leads, Body 8.1x8.1mm, Pitch 0.5mm, Thermal Pad 6.1x6.1mm, IPC Medium Density)
footprint CYP-LTX56-6100X6100TP_L (QFN, 56-Leads, Body 8.1x8.1mm, Pitch 0.5mm, Thermal Pad 6.1x6.1mm, IPC High Density)
footprint CYP-LTX56-6100X6100TP_M (QFN, 56-Leads, Body 8.1x8.1mm, Pitch 0.5mm, Thermal Pad 6.1x6.1mm, IPC Low Density)
part A pins: 9 DD-[2] (io) "Downstream D- Signal.", 10 DD+[2] (io) "Downstream D+ Signal.", 13 DD-[1] (io) "Downstream D- Signal.", 14 DD+[1] (io) "Downstream D+ Signal.", 17 D- (io) "Upstream D- Signal.", 18 D+ (io) "Upstream D+ Signal.", 21 XIN (in) "24 MHz crystal IN or external clock input.", 22 XOUT "24 MHz crystal OUT. (NC if external clock is used)", 25 SPI_CS (out) "SPI chip select. Connect to CS pin of the EEPROM.", 29 PWR#[1] (hiz) "Power switch driver output. Default is active LOW. Polarity is controlled through EEPROM.", 30 OVR#[1] (in) "Overcurrent condition detection input. Default is active LOW. Polarity is controlled through EEPROM.", 31 PWR#[2] (hiz) "Power switch driver output. Default is active LOW. Polarity is controlled through EEPROM.", 32 OVR#[2] (in) "Overcurrent condition detection input. Default is active LOW. Polarity is controlled through EEPROM.", 35 GREEN#[1] (out) "LED. Driver output for Green LED. Port indicator support. Default is active LOW. Polarity is controlled through EEPROM.", 36 AMBER#[1] (out) "LED. Driver output for Amber LED. Port indicator support. Default is active LOW. Polarity is controlled through EEPROM.", 37 GREEN#[2] (out) "LED. Driver output for green LED. Port indicator support. Default is active LOW. Polarity is controlled through EEPROM.", 38 AMBER#[2] (out) "LED. Driver output for amber LED. Port indicator support. Default is active LOW. Polarity is controlled through EEPROM.", 45 SELFPWR (in) "Self power. Indicator for bus or self powered. 0 is bus powered, 1 is self powered.", 46 RESET# (in) "Active LOW reset. This pin resets the entire chip. It is normally tied to VCC through a 100 K resistor, and to GND through a 0.1 uF capacitor. No other special power-up procedure is required.", 48 SPI_SCK (out) "SPI clock. Connect to EEPROM SCK pin.", 49 SPI_SD (io) "SPI dataline connect to GND with 15 kW resistor and to the Data I/O pin of the EEPROM."
part B pins: 3 VCC (power) "VCC. This signal provides power to the chip.", 4 GND (power) "GND. Connect to ground with as short a path as possible.", 7 VCC (power) "VCC. This signal provides power to the chip.", 8 GND (power) "GND. Connect to ground with as short a path as possible.", 11 VCC (power) "VCC. This signal provides power to the chip.", 12 GND (power) "GND. Connect to ground with as short a path as possible.", 15 VCC (power) "VCC. This signal provides power to the chip.", 16 GND (power) "GND. Connect to ground with as short a path as possible.", 19 VCC (power) "VCC. This signal provides power to the chip.", 20 GND (power) "GND. Connect to ground with as short a path as possible.", 23 VCC (power) "VCC. This signal provides power to the chip.", 24 GND (power) "GND. Connect to ground with as short a path as possible.", 26 VBUSPOWER (power) "VBUS. Connect to the VBUS pin of the upstream connector. This signal indicates to the hub that it is in a connected state, and may enable the D+ pull-up resistor to indicate a connection. (The hub does so after the external (See Datasheet)", 27 VCC (power) "VCC. This signal provides power to the chip.", 28 GND (power) "GND. Connect to ground with as short a path as possible.", 33 VCC (power) "VCC. This signal provides power to the chip.", 34 GND (power) "GND. Connect to ground with as short a path as possible.", 39 VCC (power) "VCC. This signal provides power to the chip.", 40 GND (power) "GND. Connect to ground with as short a path as possible.", 47 GND (power) "GND. Connect to ground with as short a path as possible.", 50 GND (power) "GND. Connect to ground with as short a path as possible.", 55 VCC (power) "VCC. This signal provides power to the chip.", 56 GND (power) "GND. Connect to ground with as short a path as possible.", 57 EP
part C pins: 1 NC, 2 NC, 5 NC, 6 NC, 41 NC, 42 NC, 43 NC, 44 NC, 51 RESERVED "Reserved. Pull to deasserted state with external resistor", 52 NC, 53 RESERVED "Reserved. Pull to deasserted state with external resistor", 54 NC

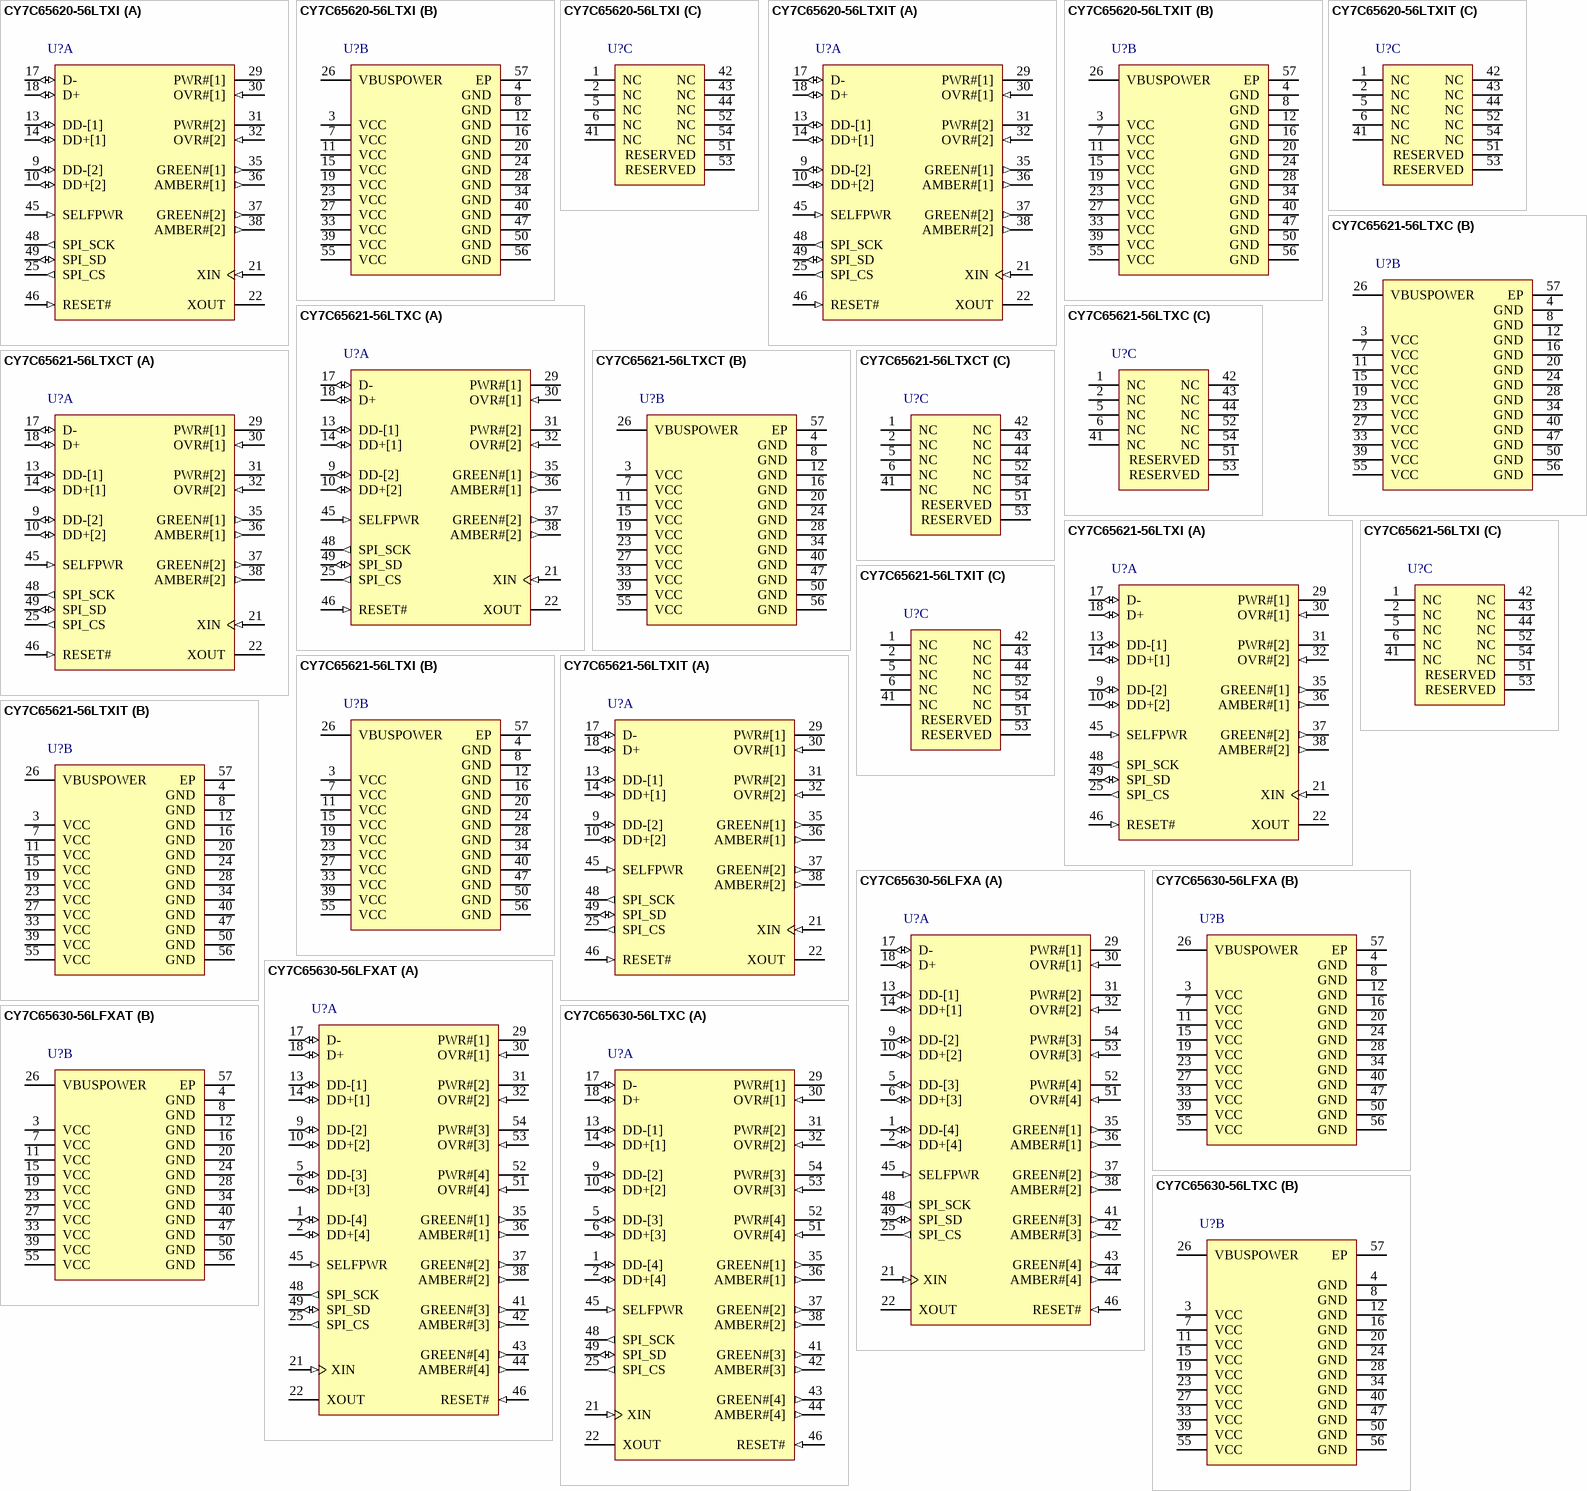
[diagram p4: symbols CY7C65620-56LTXI to CY7C65630-56LTXC]